# Altium integrated library TI Data Converters Analog to Digital Converter.IntLib: 2197 symbols (part 59 of 168)
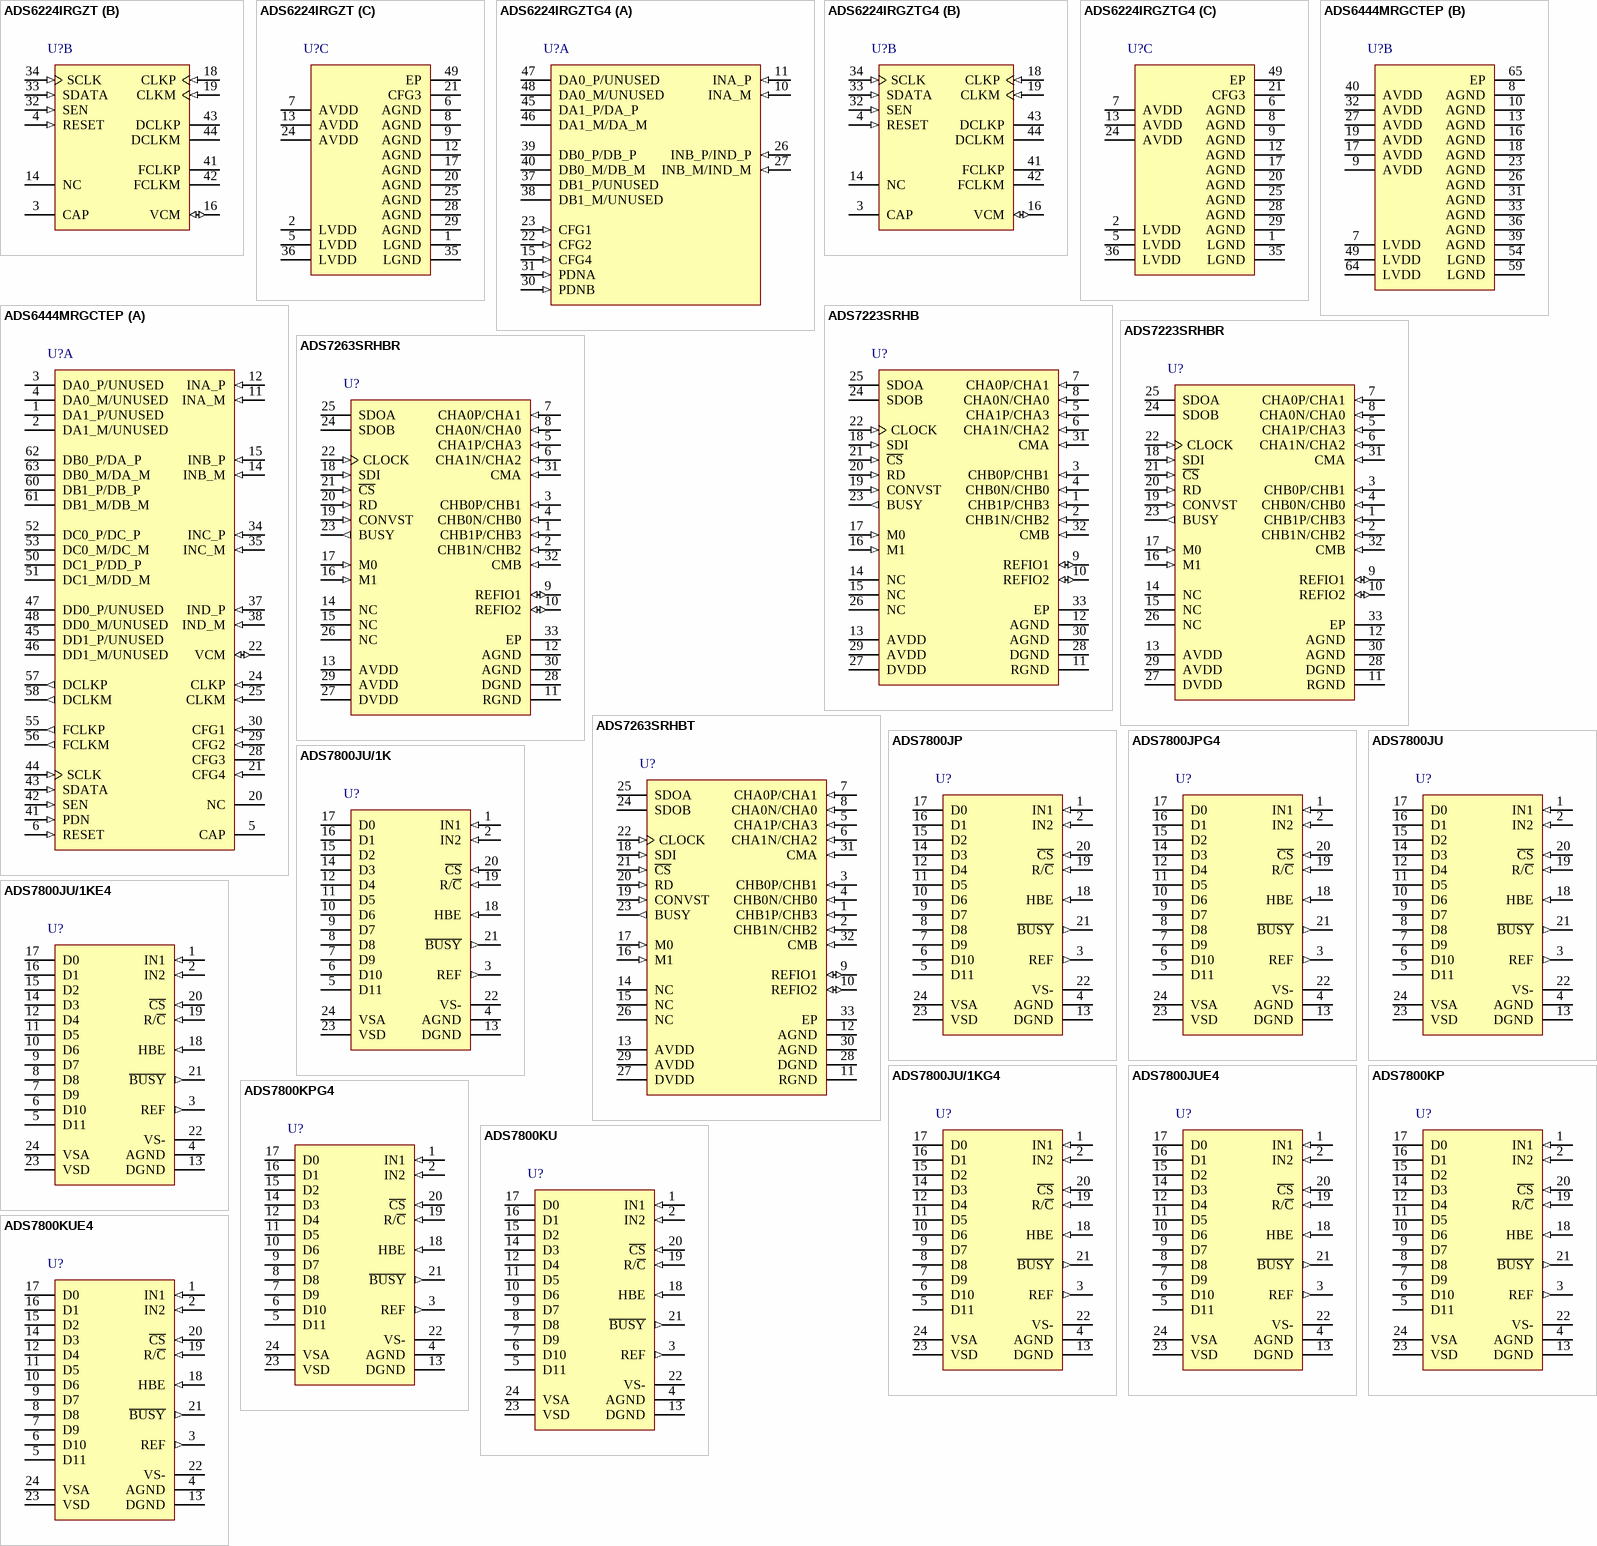
[diagram p184: symbols ADS6224IRGZT to ADS7800KUE4]

## ADS7800JU/1KE4
designator U?
12-Bit 3 us Sampling ADC, -40 to 85 degC, 24-pin SOIC (DW24), Green (RoHS & no Sb/Br); Manufacturer: Texas Instruments; PartNumber: ADS7800JU/1KE4; # Input Channels: 1; Analog Voltage AV/DD(Max)(V): 5.25; Analog Voltage AV/DD(Min)(V): 4.75; Architecture: SAR; Interface: Parallel CMOS; Resolution(Bits): 12; Sample Rate (max)(SPS): 333k; SFDR(dB): 77; SINAD(dB): 70; SNR(dB): 71; SubFamily: Precision ADC (<=10MSPS); DatasheetVersion: SBAS001A; PackageVersion: 4040000-5/G, 01/2011; PackageReference: DW24; PackageDescription: 24-Pin Plastic Small Outline, Body 15.4 x 7.5 mm, Pitch 1.27 mm; Supplier 1: Digi-Key; Supplier Part Number 1: ADS1216Y/250TR-ND; Supplier 2: Digi-Key; Supplier Part Number 2: ADS1216Y/250CT-ND; Supplier 3: Digi-Key; Supplier Part Number 3: ADS1216Y/250DKR-ND; Supplier 4: Farnell; Supplier Part Number 4: 1648595; Supplier 5: Newark; Supplier Part Number 5: 74C6984; Supplier 6: Mouser; Supplier Part Number 6: 595-ADS1216Y/250; Digital Supply(Max)(V): 5.25; Digital Supply(Min)(V): 4.75; Eco-Plan: Green (RoHS & no Sb/Br); INL(Max)(+/-LSB): 1; Mounting Technology: Surface Mount; Code_JEDEC: MS-013; ComponentLink1Description: Manufacturer URL; ComponentLink1URL: http://www.ti.com/; ComponentLink2Description: Datasheet; ComponentLink2URL: http://www.ti.com/general/docs/lit/getliterature.tsp?genericPartNumber=ADS7800&fileType=pdf; ComponentLink3Description: Package Specification; ComponentLink3URL: http://www.ti.com/litv/pdf/mpds174a
footprint TI-DW24_N (SOIC, 24-Leads, Body 15.4x7.5mm, Pitch 1.27mm, IPC Medium Density)
footprint TI-DW24_L (SOIC, 24-Leads, Body 15.4x7.5mm, Pitch 1.27mm, IPC High Density)
footprint TI-DW24_M (SOIC, 24-Leads, Body 15.4x7.5mm, Pitch 1.27mm, IPC Low Density)
pins: 1 IN1 (in) "+/-10V Analog Input. Connected to GND for +/-5V range.", 2 IN2 (in) "+/-5V Analog Input. Connected to GND for +/-10V range.", 3 REF (out) "+2V Reference Output. Bypass to GND with 22uF to 47uF Tantalum. Buffer for external loads.", 4 AGND (power) "Analog Ground. Connect to pin 13.", 5 D11 (hiz) "Data Bit 11. Most Significant Bit (MSB).", 6 D10 (hiz) "Data Bit 10.", 7 D9 (hiz) "Data Bit 9.", 8 D8 (hiz) "Data Bit 8.", 9 D7 (hiz) "Data Bit 7 if HBE is LOW; LOW if HBE is HIGH.", 10 D6 (hiz) "Data Bit 6 if HBE is LOW; LOW if HBE is HIGH.", 11 D5 (hiz) "Data Bit 5 if HBE is LOW; LOW if HBE is HIGH.", 12 D4 (hiz) "Data Bit 4 if HBE is LOW; LOW if HBE is HIGH.", 13 DGND (power) "Digital Ground. Connect to pin 4.", 14 D3 (hiz) "Data Bit 3 if HBE is LOW; Data Bit 11 if HBE is HIGH.", 15 D2 (hiz) "Data Bit 2 if HBE is LOW; Data Bit 10 if HBE is HIGH.", 16 D1 (hiz) "Data Bit 1 if HBE is LOW; Data Bit 9 if HBE is HIGH.", 17 D0 (hiz) "Data Bit 0 if HBE is LOW. Least Significant Bit (LSB); Data Bit 8 if HBE is HIGH.", 18 HBE (in) "High Byte Enable. When held LOW, data output as 12 bits in parallel. When held HIGH, four MSBs presented on pins 14-17, pins 9-12 output LOWs. Must be LOW to initiate conversion.", 19 R/~{C} (in) "Read/Convert. Falling edge initiates conversion when C\S\ is LOW, HBE is LOW, and B\U\S\Y\ is HIGH.", 20 ~{CS} (in) "Chip Select. Outputs in Hi-Z state when HIGH. Must be LOW to initiate conversion or read data.", 21 ~{BUSY} (out) "Busy. Output LOW during conversion. Data valid on rising edge in Convert Mode.", 22 VS- (power) "Negative Power Supply. -12V or -15V. Bypass to GND.", 23 VSD (power) "Positive Digital Power Supply. +5V. Connect to pin 24, and bypass to GND.", 24 VSA (power) "Positive Analog Power Supply. +5V. Connect to pin 23, and bypass to GND."

## ADS7800JU/1KG4
designator U?
12-Bit 3 us Sampling ADC, -40 to 85 degC, 24-pin SOIC (DW24), Green (RoHS & no Sb/Br); Manufacturer: Texas Instruments; PartNumber: ADS7800JU/1KG4; # Input Channels: 1; Analog Voltage AV/DD(Max)(V): 5.25; Analog Voltage AV/DD(Min)(V): 4.75; Architecture: SAR; Interface: Parallel CMOS; Resolution(Bits): 12; Sample Rate (max)(SPS): 333k; SFDR(dB): 77; SINAD(dB): 70; SNR(dB): 71; SubFamily: Precision ADC (<=10MSPS); DatasheetVersion: SBAS001A; PackageVersion: 4040000-5/G, 01/2011; PackageReference: DW24; PackageDescription: 24-Pin Plastic Small Outline, Body 15.4 x 7.5 mm, Pitch 1.27 mm; Supplier 1: Digi-Key; Supplier Part Number 1: ADS1216Y/250G4-ND; Supplier 2: Mouser; Supplier Part Number 2: 595-ADS1216Y/250G4; Digital Supply(Max)(V): 5.25; Digital Supply(Min)(V): 4.75; Eco-Plan: Green (RoHS & no Sb/Br); INL(Max)(+/-LSB): 1; Mounting Technology: Surface Mount; Code_JEDEC: MS-013; ComponentLink1Description: Manufacturer URL; ComponentLink1URL: http://www.ti.com/; ComponentLink2Description: Datasheet; ComponentLink2URL: http://www.ti.com/general/docs/lit/getliterature.tsp?genericPartNumber=ADS7800&fileType=pdf; ComponentLink3Description: Package Specification; ComponentLink3URL: http://www.ti.com/litv/pdf/mpds174a
footprint TI-DW24_N (SOIC, 24-Leads, Body 15.4x7.5mm, Pitch 1.27mm, IPC Medium Density)
footprint TI-DW24_L (SOIC, 24-Leads, Body 15.4x7.5mm, Pitch 1.27mm, IPC High Density)
footprint TI-DW24_M (SOIC, 24-Leads, Body 15.4x7.5mm, Pitch 1.27mm, IPC Low Density)
pins: 1 IN1 (in) "+/-10V Analog Input. Connected to GND for +/-5V range.", 2 IN2 (in) "+/-5V Analog Input. Connected to GND for +/-10V range.", 3 REF (out) "+2V Reference Output. Bypass to GND with 22uF to 47uF Tantalum. Buffer for external loads.", 4 AGND (power) "Analog Ground. Connect to pin 13.", 5 D11 (hiz) "Data Bit 11. Most Significant Bit (MSB).", 6 D10 (hiz) "Data Bit 10.", 7 D9 (hiz) "Data Bit 9.", 8 D8 (hiz) "Data Bit 8.", 9 D7 (hiz) "Data Bit 7 if HBE is LOW; LOW if HBE is HIGH.", 10 D6 (hiz) "Data Bit 6 if HBE is LOW; LOW if HBE is HIGH.", 11 D5 (hiz) "Data Bit 5 if HBE is LOW; LOW if HBE is HIGH.", 12 D4 (hiz) "Data Bit 4 if HBE is LOW; LOW if HBE is HIGH.", 13 DGND (power) "Digital Ground. Connect to pin 4.", 14 D3 (hiz) "Data Bit 3 if HBE is LOW; Data Bit 11 if HBE is HIGH.", 15 D2 (hiz) "Data Bit 2 if HBE is LOW; Data Bit 10 if HBE is HIGH.", 16 D1 (hiz) "Data Bit 1 if HBE is LOW; Data Bit 9 if HBE is HIGH.", 17 D0 (hiz) "Data Bit 0 if HBE is LOW. Least Significant Bit (LSB); Data Bit 8 if HBE is HIGH.", 18 HBE (in) "High Byte Enable. When held LOW, data output as 12 bits in parallel. When held HIGH, four MSBs presented on pins 14-17, pins 9-12 output LOWs. Must be LOW to initiate conversion.", 19 R/~{C} (in) "Read/Convert. Falling edge initiates conversion when C\S\ is LOW, HBE is LOW, and B\U\S\Y\ is HIGH.", 20 ~{CS} (in) "Chip Select. Outputs in Hi-Z state when HIGH. Must be LOW to initiate conversion or read data.", 21 ~{BUSY} (out) "Busy. Output LOW during conversion. Data valid on rising edge in Convert Mode.", 22 VS- (power) "Negative Power Supply. -12V or -15V. Bypass to GND.", 23 VSD (power) "Positive Digital Power Supply. +5V. Connect to pin 24, and bypass to GND.", 24 VSA (power) "Positive Analog Power Supply. +5V. Connect to pin 23, and bypass to GND."

## ADS7800JUE4
designator U?
12-Bit 3 us Sampling ADC, -40 to 85 degC, 24-pin SOIC (DW24), Green (RoHS & no Sb/Br); Manufacturer: Texas Instruments; PartNumber: ADS7800JUE4; # Input Channels: 1; Analog Voltage AV/DD(Max)(V): 5.25; Analog Voltage AV/DD(Min)(V): 4.75; Architecture: SAR; Interface: Parallel CMOS; Resolution(Bits): 12; Sample Rate (max)(SPS): 333k; SFDR(dB): 77; SINAD(dB): 70; SNR(dB): 71; SubFamily: Precision ADC (<=10MSPS); DatasheetVersion: SBAS001A; PackageVersion: 4040000-5/G, 01/2011; PackageReference: DW24; PackageDescription: 24-Pin Plastic Small Outline, Body 15.4 x 7.5 mm, Pitch 1.27 mm; Supplier 1: Digi-Key; Supplier Part Number 1: ADS1216Y/2K-ND; Supplier 2: Newark; Supplier Part Number 2: 74C6983; Supplier 3: Mouser; Supplier Part Number 3: 595-ADS1216Y/2K; Digital Supply(Max)(V): 5.25; Digital Supply(Min)(V): 4.75; Eco-Plan: Green (RoHS & no Sb/Br); INL(Max)(+/-LSB): 1; Mounting Technology: Surface Mount; Code_JEDEC: MS-013; ComponentLink1Description: Manufacturer URL; ComponentLink1URL: http://www.ti.com/; ComponentLink2Description: Datasheet; ComponentLink2URL: http://www.ti.com/general/docs/lit/getliterature.tsp?genericPartNumber=ADS7800&fileType=pdf; ComponentLink3Description: Package Specification; ComponentLink3URL: http://www.ti.com/litv/pdf/mpds174a
footprint TI-DW24_N (SOIC, 24-Leads, Body 15.4x7.5mm, Pitch 1.27mm, IPC Medium Density)
footprint TI-DW24_L (SOIC, 24-Leads, Body 15.4x7.5mm, Pitch 1.27mm, IPC High Density)
footprint TI-DW24_M (SOIC, 24-Leads, Body 15.4x7.5mm, Pitch 1.27mm, IPC Low Density)
pins: 1 IN1 (in) "+/-10V Analog Input. Connected to GND for +/-5V range.", 2 IN2 (in) "+/-5V Analog Input. Connected to GND for +/-10V range.", 3 REF (out) "+2V Reference Output. Bypass to GND with 22uF to 47uF Tantalum. Buffer for external loads.", 4 AGND (power) "Analog Ground. Connect to pin 13.", 5 D11 (hiz) "Data Bit 11. Most Significant Bit (MSB).", 6 D10 (hiz) "Data Bit 10.", 7 D9 (hiz) "Data Bit 9.", 8 D8 (hiz) "Data Bit 8.", 9 D7 (hiz) "Data Bit 7 if HBE is LOW; LOW if HBE is HIGH.", 10 D6 (hiz) "Data Bit 6 if HBE is LOW; LOW if HBE is HIGH.", 11 D5 (hiz) "Data Bit 5 if HBE is LOW; LOW if HBE is HIGH.", 12 D4 (hiz) "Data Bit 4 if HBE is LOW; LOW if HBE is HIGH.", 13 DGND (power) "Digital Ground. Connect to pin 4.", 14 D3 (hiz) "Data Bit 3 if HBE is LOW; Data Bit 11 if HBE is HIGH.", 15 D2 (hiz) "Data Bit 2 if HBE is LOW; Data Bit 10 if HBE is HIGH.", 16 D1 (hiz) "Data Bit 1 if HBE is LOW; Data Bit 9 if HBE is HIGH.", 17 D0 (hiz) "Data Bit 0 if HBE is LOW. Least Significant Bit (LSB); Data Bit 8 if HBE is HIGH.", 18 HBE (in) "High Byte Enable. When held LOW, data output as 12 bits in parallel. When held HIGH, four MSBs presented on pins 14-17, pins 9-12 output LOWs. Must be LOW to initiate conversion.", 19 R/~{C} (in) "Read/Convert. Falling edge initiates conversion when C\S\ is LOW, HBE is LOW, and B\U\S\Y\ is HIGH.", 20 ~{CS} (in) "Chip Select. Outputs in Hi-Z state when HIGH. Must be LOW to initiate conversion or read data.", 21 ~{BUSY} (out) "Busy. Output LOW during conversion. Data valid on rising edge in Convert Mode.", 22 VS- (power) "Negative Power Supply. -12V or -15V. Bypass to GND.", 23 VSD (power) "Positive Digital Power Supply. +5V. Connect to pin 24, and bypass to GND.", 24 VSA (power) "Positive Analog Power Supply. +5V. Connect to pin 23, and bypass to GND."

## ADS7800KP
designator U?
12-Bit 3 us Sampling ADC, -40 to 85 degC, 24-pin DIP (NT24), Green (RoHS & no Sb/Br); Manufacturer: Texas Instruments; PartNumber: ADS7800KP; # Input Channels: 1; Analog Voltage AV/DD(Max)(V): 5.25; Analog Voltage AV/DD(Min)(V): 4.75; Architecture: SAR; INL(Max)(+/-LSB): 0.5; Interface: Parallel CMOS; Resolution(Bits): 12; Sample Rate (max)(SPS): 333k; SFDR(dB): 80; SINAD(dB): 72; SNR(dB): 73; SubFamily: Precision ADC (<=10MSPS); DatasheetVersion: SBAS001A; PackageVersion: 4040050/C, 04/2009; PackageReference: NT24; PackageDescription: 24-Pin Plastic Dual-In-Line Package, Body 31.64 x 6.73 mm, Pitch 2.54 mm; Supplier 1: Digi-Key; Supplier Part Number 1: ADS1216Y/2KG4-ND; Supplier 2: Mouser; Supplier Part Number 2: 595-ADS1216Y/2KG4; Digital Supply(Max)(V): 5.25; Digital Supply(Min)(V): 4.75; Eco-Plan: Green (RoHS & no Sb/Br); Mounting Technology: Through Hole; ComponentLink1Description: Manufacturer URL; ComponentLink1URL: http://www.ti.com/; ComponentLink2Description: Datasheet; ComponentLink2URL: http://www.ti.com/general/docs/lit/getliterature.tsp?genericPartNumber=ADS7800&fileType=pdf; ComponentLink3Description: Package Specification; ComponentLink3URL: http://www.ti.com/litv/pdf/mpdi004a
footprint TI-NT24 (DIP, 24-Leads, Body 31.64x6.73mm, Pitch 2.54mm)
pins: 1 IN1 (in) "+/-10V Analog Input. Connected to GND for +/-5V range.", 2 IN2 (in) "+/-5V Analog Input. Connected to GND for +/-10V range.", 3 REF (out) "+2V Reference Output. Bypass to GND with 22uF to 47uF Tantalum. Buffer for external loads.", 4 AGND (power) "Analog Ground. Connect to pin 13.", 5 D11 (hiz) "Data Bit 11. Most Significant Bit (MSB).", 6 D10 (hiz) "Data Bit 10.", 7 D9 (hiz) "Data Bit 9.", 8 D8 (hiz) "Data Bit 8.", 9 D7 (hiz) "Data Bit 7 if HBE is LOW; LOW if HBE is HIGH.", 10 D6 (hiz) "Data Bit 6 if HBE is LOW; LOW if HBE is HIGH.", 11 D5 (hiz) "Data Bit 5 if HBE is LOW; LOW if HBE is HIGH.", 12 D4 (hiz) "Data Bit 4 if HBE is LOW; LOW if HBE is HIGH.", 13 DGND (power) "Digital Ground. Connect to pin 4.", 14 D3 (hiz) "Data Bit 3 if HBE is LOW; Data Bit 11 if HBE is HIGH.", 15 D2 (hiz) "Data Bit 2 if HBE is LOW; Data Bit 10 if HBE is HIGH.", 16 D1 (hiz) "Data Bit 1 if HBE is LOW; Data Bit 9 if HBE is HIGH.", 17 D0 (hiz) "Data Bit 0 if HBE is LOW. Least Significant Bit (LSB); Data Bit 8 if HBE is HIGH.", 18 HBE (in) "High Byte Enable. When held LOW, data output as 12 bits in parallel. When held HIGH, four MSBs presented on pins 14-17, pins 9-12 output LOWs. Must be LOW to initiate conversion.", 19 R/~{C} (in) "Read/Convert. Falling edge initiates conversion when C\S\ is LOW, HBE is LOW, and B\U\S\Y\ is HIGH.", 20 ~{CS} (in) "Chip Select. Outputs in Hi-Z state when HIGH. Must be LOW to initiate conversion or read data.", 21 ~{BUSY} (out) "Busy. Output LOW during conversion. Data valid on rising edge in Convert Mode.", 22 VS- (power) "Negative Power Supply. -12V or -15V. Bypass to GND.", 23 VSD (power) "Positive Digital Power Supply. +5V. Connect to pin 24, and bypass to GND.", 24 VSA (power) "Positive Analog Power Supply. +5V. Connect to pin 23, and bypass to GND."

## ADS7800KPG4
designator U?
12-Bit 3 us Sampling ADC, -40 to 85 degC, 24-pin DIP (NT24), Green (RoHS & no Sb/Br); Manufacturer: Texas Instruments; PartNumber: ADS7800KPG4; # Input Channels: 1; Analog Voltage AV/DD(Max)(V): 5.25; Analog Voltage AV/DD(Min)(V): 4.75; Architecture: SAR; INL(Max)(+/-LSB): 0.5; Interface: Parallel CMOS; Resolution(Bits): 12; Sample Rate (max)(SPS): 333k; SFDR(dB): 80; SINAD(dB): 72; SNR(dB): 73; SubFamily: Precision ADC (<=10MSPS); DatasheetVersion: SBAS001A; PackageVersion: 4040050/C, 04/2009; PackageReference: NT24; PackageDescription: 24-Pin Plastic Dual-In-Line Package, Body 31.64 x 6.73 mm, Pitch 2.54 mm; Supplier 1: Digi-Key; Supplier Part Number 1: ADS850YTR-ND; Supplier 2: Digi-Key; Supplier Part Number 2: ADS850YCT-ND; Supplier 3: Digi-Key; Supplier Part Number 3: ADS850YDKR-ND; Supplier 4: Farnell; Supplier Part Number 4: 1544008; Supplier 5: Newark; Supplier Part Number 5: 94M6145; Supplier 6: Newark; Supplier Part Number 6: 74C7263; Supplier 7: Mouser; Supplier Part Number 7: 595-ADS850Y/250; Digital Supply(Max)(V): 5.25; Digital Supply(Min)(V): 4.75; Eco-Plan: Green (RoHS & no Sb/Br); Mounting Technology: Through Hole; ComponentLink1Description: Manufacturer URL; ComponentLink1URL: http://www.ti.com/; ComponentLink2Description: Datasheet; ComponentLink2URL: http://www.ti.com/general/docs/lit/getliterature.tsp?genericPartNumber=ADS7800&fileType=pdf; ComponentLink3Description: Package Specification; ComponentLink3URL: http://www.ti.com/litv/pdf/mpdi004a
footprint TI-NT24 (DIP, 24-Leads, Body 31.64x6.73mm, Pitch 2.54mm)
pins: 1 IN1 (in) "+/-10V Analog Input. Connected to GND for +/-5V range.", 2 IN2 (in) "+/-5V Analog Input. Connected to GND for +/-10V range.", 3 REF (out) "+2V Reference Output. Bypass to GND with 22uF to 47uF Tantalum. Buffer for external loads.", 4 AGND (power) "Analog Ground. Connect to pin 13.", 5 D11 (hiz) "Data Bit 11. Most Significant Bit (MSB).", 6 D10 (hiz) "Data Bit 10.", 7 D9 (hiz) "Data Bit 9.", 8 D8 (hiz) "Data Bit 8.", 9 D7 (hiz) "Data Bit 7 if HBE is LOW; LOW if HBE is HIGH.", 10 D6 (hiz) "Data Bit 6 if HBE is LOW; LOW if HBE is HIGH.", 11 D5 (hiz) "Data Bit 5 if HBE is LOW; LOW if HBE is HIGH.", 12 D4 (hiz) "Data Bit 4 if HBE is LOW; LOW if HBE is HIGH.", 13 DGND (power) "Digital Ground. Connect to pin 4.", 14 D3 (hiz) "Data Bit 3 if HBE is LOW; Data Bit 11 if HBE is HIGH.", 15 D2 (hiz) "Data Bit 2 if HBE is LOW; Data Bit 10 if HBE is HIGH.", 16 D1 (hiz) "Data Bit 1 if HBE is LOW; Data Bit 9 if HBE is HIGH.", 17 D0 (hiz) "Data Bit 0 if HBE is LOW. Least Significant Bit (LSB); Data Bit 8 if HBE is HIGH.", 18 HBE (in) "High Byte Enable. When held LOW, data output as 12 bits in parallel. When held HIGH, four MSBs presented on pins 14-17, pins 9-12 output LOWs. Must be LOW to initiate conversion.", 19 R/~{C} (in) "Read/Convert. Falling edge initiates conversion when C\S\ is LOW, HBE is LOW, and B\U\S\Y\ is HIGH.", 20 ~{CS} (in) "Chip Select. Outputs in Hi-Z state when HIGH. Must be LOW to initiate conversion or read data.", 21 ~{BUSY} (out) "Busy. Output LOW during conversion. Data valid on rising edge in Convert Mode.", 22 VS- (power) "Negative Power Supply. -12V or -15V. Bypass to GND.", 23 VSD (power) "Positive Digital Power Supply. +5V. Connect to pin 24, and bypass to GND.", 24 VSA (power) "Positive Analog Power Supply. +5V. Connect to pin 23, and bypass to GND."

## ADS7800KU
designator U?
12-Bit 3 us Sampling ADC, -40 to 85 degC, 24-pin SOIC (DW24), Green (RoHS & no Sb/Br); Manufacturer: Texas Instruments; PartNumber: ADS7800KU; # Input Channels: 1; Analog Voltage AV/DD(Max)(V): 5.25; Analog Voltage AV/DD(Min)(V): 4.75; Architecture: SAR; INL(Max)(+/-LSB): 0.5; Interface: Parallel CMOS; Resolution(Bits): 12; Sample Rate (max)(SPS): 333k; SFDR(dB): 80; SINAD(dB): 72; SNR(dB): 73; SubFamily: Precision ADC (<=10MSPS); DatasheetVersion: SBAS001A; PackageVersion: 4040000-5/G, 01/2011; PackageReference: DW24; PackageDescription: 24-Pin Plastic Small Outline, Body 15.4 x 7.5 mm, Pitch 1.27 mm; Supplier 1: Digi-Key; Supplier Part Number 1: ADS850Y/250G4-ND; Supplier 2: Newark; Supplier Part Number 2: 20M4997; Supplier 3: Mouser; Supplier Part Number 3: 595-ADS850Y/250G4; Digital Supply(Max)(V): 5.25; Digital Supply(Min)(V): 4.75; Eco-Plan: Green (RoHS & no Sb/Br); Mounting Technology: Surface Mount; Code_JEDEC: MS-013; ComponentLink1Description: Manufacturer URL; ComponentLink1URL: http://www.ti.com/; ComponentLink2Description: Datasheet; ComponentLink2URL: http://www.ti.com/general/docs/lit/getliterature.tsp?genericPartNumber=ADS7800&fileType=pdf; ComponentLink3Description: Package Specification; ComponentLink3URL: http://www.ti.com/litv/pdf/mpds174a
footprint TI-DW24_N (SOIC, 24-Leads, Body 15.4x7.5mm, Pitch 1.27mm, IPC Medium Density)
footprint TI-DW24_L (SOIC, 24-Leads, Body 15.4x7.5mm, Pitch 1.27mm, IPC High Density)
footprint TI-DW24_M (SOIC, 24-Leads, Body 15.4x7.5mm, Pitch 1.27mm, IPC Low Density)
pins: 1 IN1 (in) "+/-10V Analog Input. Connected to GND for +/-5V range.", 2 IN2 (in) "+/-5V Analog Input. Connected to GND for +/-10V range.", 3 REF (out) "+2V Reference Output. Bypass to GND with 22uF to 47uF Tantalum. Buffer for external loads.", 4 AGND (power) "Analog Ground. Connect to pin 13.", 5 D11 (hiz) "Data Bit 11. Most Significant Bit (MSB).", 6 D10 (hiz) "Data Bit 10.", 7 D9 (hiz) "Data Bit 9.", 8 D8 (hiz) "Data Bit 8.", 9 D7 (hiz) "Data Bit 7 if HBE is LOW; LOW if HBE is HIGH.", 10 D6 (hiz) "Data Bit 6 if HBE is LOW; LOW if HBE is HIGH.", 11 D5 (hiz) "Data Bit 5 if HBE is LOW; LOW if HBE is HIGH.", 12 D4 (hiz) "Data Bit 4 if HBE is LOW; LOW if HBE is HIGH.", 13 DGND (power) "Digital Ground. Connect to pin 4.", 14 D3 (hiz) "Data Bit 3 if HBE is LOW; Data Bit 11 if HBE is HIGH.", 15 D2 (hiz) "Data Bit 2 if HBE is LOW; Data Bit 10 if HBE is HIGH.", 16 D1 (hiz) "Data Bit 1 if HBE is LOW; Data Bit 9 if HBE is HIGH.", 17 D0 (hiz) "Data Bit 0 if HBE is LOW. Least Significant Bit (LSB); Data Bit 8 if HBE is HIGH.", 18 HBE (in) "High Byte Enable. When held LOW, data output as 12 bits in parallel. When held HIGH, four MSBs presented on pins 14-17, pins 9-12 output LOWs. Must be LOW to initiate conversion.", 19 R/~{C} (in) "Read/Convert. Falling edge initiates conversion when C\S\ is LOW, HBE is LOW, and B\U\S\Y\ is HIGH.", 20 ~{CS} (in) "Chip Select. Outputs in Hi-Z state when HIGH. Must be LOW to initiate conversion or read data.", 21 ~{BUSY} (out) "Busy. Output LOW during conversion. Data valid on rising edge in Convert Mode.", 22 VS- (power) "Negative Power Supply. -12V or -15V. Bypass to GND.", 23 VSD (power) "Positive Digital Power Supply. +5V. Connect to pin 24, and bypass to GND.", 24 VSA (power) "Positive Analog Power Supply. +5V. Connect to pin 23, and bypass to GND."

## ADS7800KUE4
designator U?
12-Bit 3 us Sampling ADC, -40 to 85 degC, 24-pin SOIC (DW24), Green (RoHS & no Sb/Br); Manufacturer: Texas Instruments; PartNumber: ADS7800KUE4; # Input Channels: 1; Analog Voltage AV/DD(Max)(V): 5.25; Analog Voltage AV/DD(Min)(V): 4.75; Architecture: SAR; INL(Max)(+/-LSB): 0.5; Interface: Parallel CMOS; Resolution(Bits): 12; Sample Rate (max)(SPS): 333k; SFDR(dB): 80; SINAD(dB): 72; SNR(dB): 73; SubFamily: Precision ADC (<=10MSPS); DatasheetVersion: SBAS001A; PackageVersion: 4040000-5/G, 01/2011; PackageReference: DW24; PackageDescription: 24-Pin Plastic Small Outline, Body 15.4 x 7.5 mm, Pitch 1.27 mm; Supplier 1: Digi-Key; Supplier Part Number 1: ADS850Y/2K-ND; Supplier 2: Newark; Supplier Part Number 2: 74C7262; Supplier 3: Mouser; Supplier Part Number 3: 595-ADS850Y/2K; Digital Supply(Max)(V): 5.25; Digital Supply(Min)(V): 4.75; Eco-Plan: Green (RoHS & no Sb/Br); Mounting Technology: Surface Mount; Code_JEDEC: MS-013; ComponentLink1Description: Manufacturer URL; ComponentLink1URL: http://www.ti.com/; ComponentLink2Description: Datasheet; ComponentLink2URL: http://www.ti.com/general/docs/lit/getliterature.tsp?genericPartNumber=ADS7800&fileType=pdf; ComponentLink3Description: Package Specification; ComponentLink3URL: http://www.ti.com/litv/pdf/mpds174a
footprint TI-DW24_N (SOIC, 24-Leads, Body 15.4x7.5mm, Pitch 1.27mm, IPC Medium Density)
footprint TI-DW24_L (SOIC, 24-Leads, Body 15.4x7.5mm, Pitch 1.27mm, IPC High Density)
footprint TI-DW24_M (SOIC, 24-Leads, Body 15.4x7.5mm, Pitch 1.27mm, IPC Low Density)
pins: 1 IN1 (in) "+/-10V Analog Input. Connected to GND for +/-5V range.", 2 IN2 (in) "+/-5V Analog Input. Connected to GND for +/-10V range.", 3 REF (out) "+2V Reference Output. Bypass to GND with 22uF to 47uF Tantalum. Buffer for external loads.", 4 AGND (power) "Analog Ground. Connect to pin 13.", 5 D11 (hiz) "Data Bit 11. Most Significant Bit (MSB).", 6 D10 (hiz) "Data Bit 10.", 7 D9 (hiz) "Data Bit 9.", 8 D8 (hiz) "Data Bit 8.", 9 D7 (hiz) "Data Bit 7 if HBE is LOW; LOW if HBE is HIGH.", 10 D6 (hiz) "Data Bit 6 if HBE is LOW; LOW if HBE is HIGH.", 11 D5 (hiz) "Data Bit 5 if HBE is LOW; LOW if HBE is HIGH.", 12 D4 (hiz) "Data Bit 4 if HBE is LOW; LOW if HBE is HIGH.", 13 DGND (power) "Digital Ground. Connect to pin 4.", 14 D3 (hiz) "Data Bit 3 if HBE is LOW; Data Bit 11 if HBE is HIGH.", 15 D2 (hiz) "Data Bit 2 if HBE is LOW; Data Bit 10 if HBE is HIGH.", 16 D1 (hiz) "Data Bit 1 if HBE is LOW; Data Bit 9 if HBE is HIGH.", 17 D0 (hiz) "Data Bit 0 if HBE is LOW. Least Significant Bit (LSB); Data Bit 8 if HBE is HIGH.", 18 HBE (in) "High Byte Enable. When held LOW, data output as 12 bits in parallel. When held HIGH, four MSBs presented on pins 14-17, pins 9-12 output LOWs. Must be LOW to initiate conversion.", 19 R/~{C} (in) "Read/Convert. Falling edge initiates conversion when C\S\ is LOW, HBE is LOW, and B\U\S\Y\ is HIGH.", 20 ~{CS} (in) "Chip Select. Outputs in Hi-Z state when HIGH. Must be LOW to initiate conversion or read data.", 21 ~{BUSY} (out) "Busy. Output LOW during conversion. Data valid on rising edge in Convert Mode.", 22 VS- (power) "Negative Power Supply. -12V or -15V. Bypass to GND.", 23 VSD (power) "Positive Digital Power Supply. +5V. Connect to pin 24, and bypass to GND.", 24 VSA (power) "Positive Analog Power Supply. +5V. Connect to pin 23, and bypass to GND."

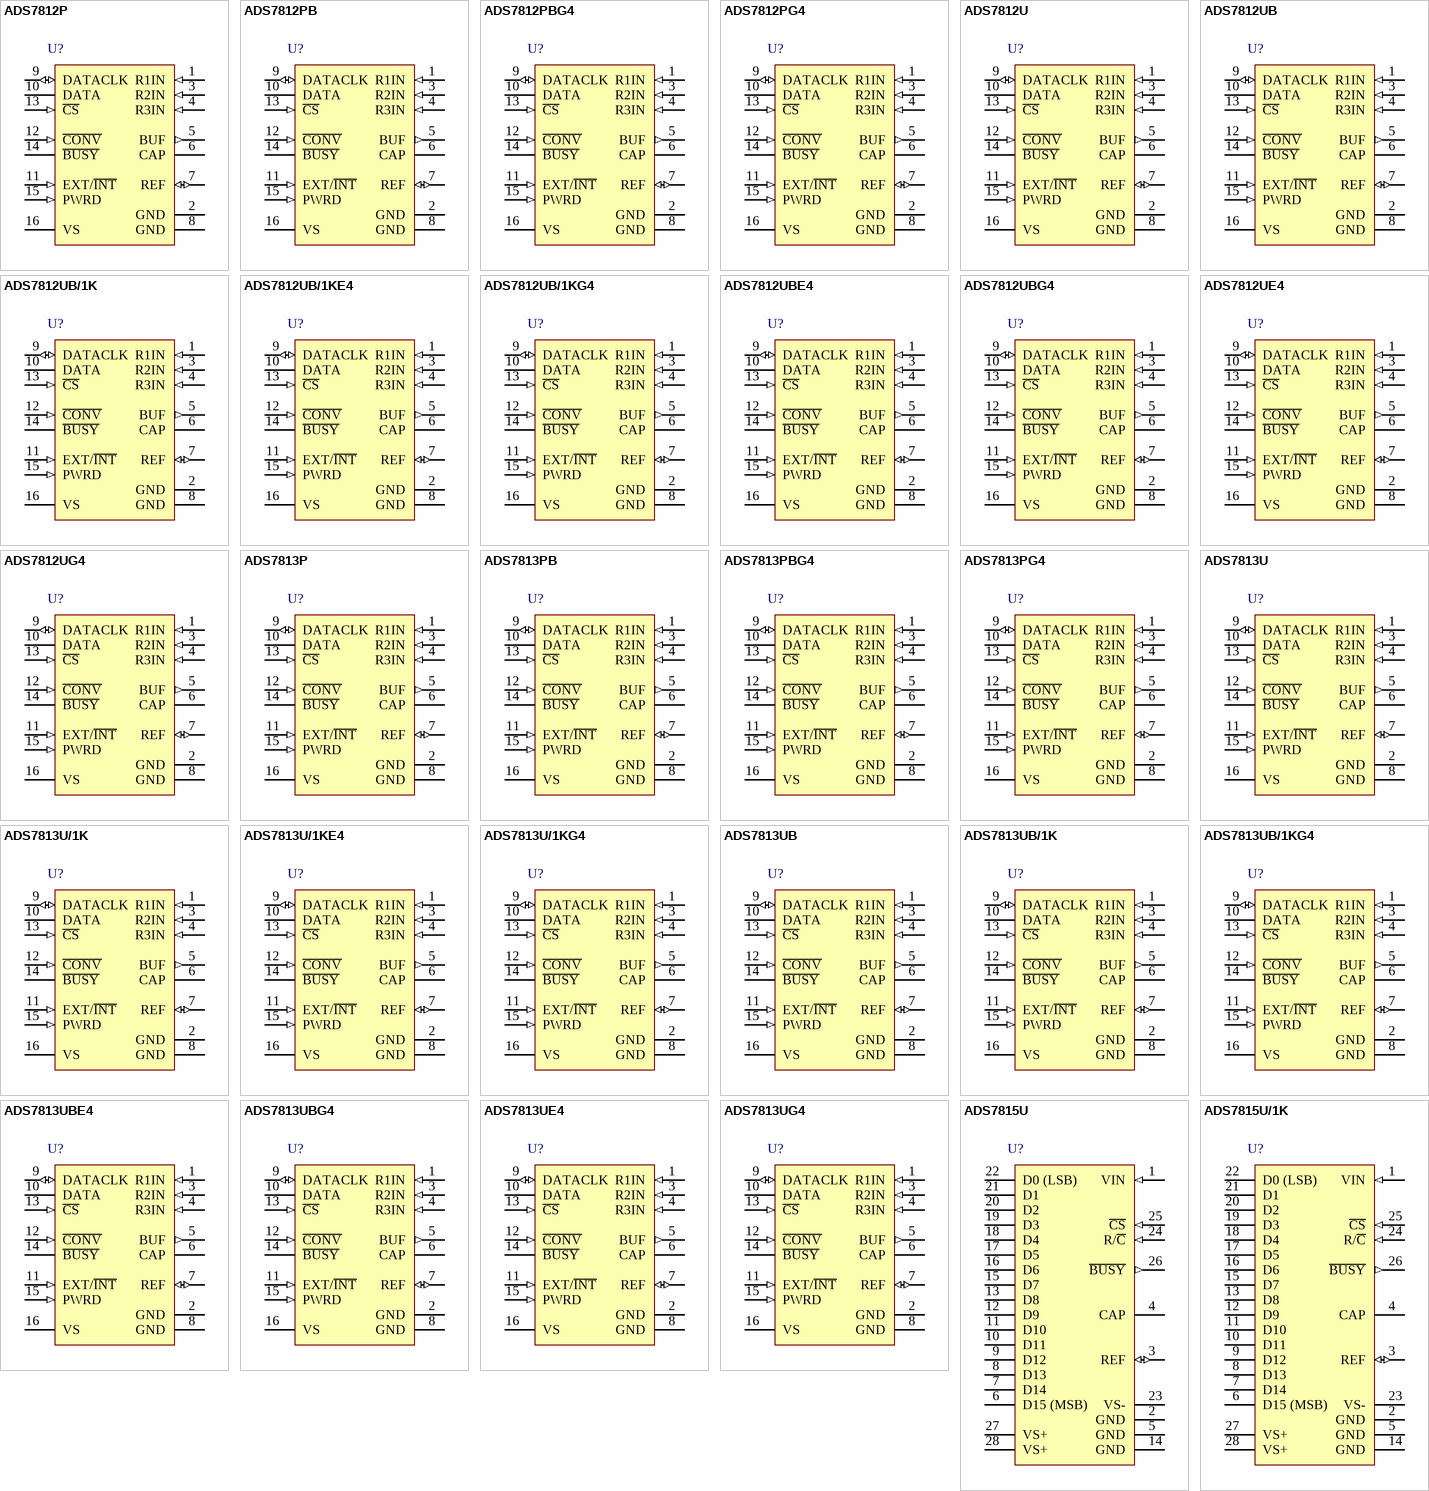
[diagram p58: symbols ADS7812P to ADS7815U/1K]

## ADS7812P
designator U?
Low-Power, Serial 12-Bit Sampling ADC, -40 to 85 degC, 16-pin DIP (N16), Green (RoHS & no Sb/Br); Manufacturer: Texas Instruments; PartNumber: ADS7812P; # Input Channels: 1; Analog Voltage AV/DD(Max)(V): 5.25; Analog Voltage AV/DD(Min)(V): 4.75; Architecture: SAR; Interface: Serial SPI; Resolution(Bits): 12; Sample Rate (max)(SPS): 40k; SFDR(dB): 98; SINAD(dB): 74; SubFamily: Precision ADC (<=10MSPS); DatasheetVersion: SBAS042A; PackageVersion: 4040049/E, 12/2002; PackageReference: N16; PackageDescription: 16-Pin Plastic In-Line, Body 19.305 x 6.35 mm, Pitch 2.54 mm; Supplier 1: Digi-Key; Supplier Part Number 1: ADS7864YTR-ND; Supplier 2: Digi-Key; Supplier Part Number 2: ADS7864YCT-ND; Supplier 3: Digi-Key; Supplier Part Number 3: ADS7864YDKR-ND; Supplier 4: Mouser; Supplier Part Number 4: 595-ADS7864Y/250; Digital Supply(Max)(V): 5.25; Digital Supply(Min)(V): 4.75; Eco-Plan: Green (RoHS & no Sb/Br); INL(Max)(+/-LSB): 1; SNR(dB): 74; Mounting Technology: Through Hole; Code_JEDEC: MS-001; ComponentLink1Description: Manufacturer URL; ComponentLink1URL: http://www.ti.com/; ComponentLink2Description: Datasheet; ComponentLink2URL: http://www.ti.com/general/docs/lit/getliterature.tsp?genericPartNumber=ADS7812&fileType=pdf; ComponentLink3Description: Package Specification; ComponentLink3URL: http://www.ti.com/litv/pdf/mpdi002c
footprint TI-N16 (DIP, 16-Leads, Body 19.305x6.35mm, Pitch 2.54mm)
pins: 1 R1IN (in) "Analog input", 2 GND (power) "Ground.", 3 R2IN (in) "Analog input", 4 R3IN (in) "Analog input", 5 BUF (out) "Reference buffer output. Connect to R1IN, R2IN, or R3IN as needed", 6 CAP "Reference buffer compensation node. Decouple to ground with a 1-uF tantalum capacitor in parallel with a 0.01uF ceramic capacitor.", 7 REF (io) "Reference input/output. Outputs internal 2.5V reference via a series 4kohm resistor. Decouple this voltage with a 1uF to 2.2uF tantalum capacitor to ground. If an external reference voltage is applied to this pin, it (See Datasheet)", 8 GND (power) "Ground.", 9 DATACLK (io) "Data clock pin. With EXT/I\N\T\ low, this pin is an output and provides the synchronous clock for the serial data. The output is 3-stated when C\S\ is high. With EXT/I\N\T\ high, this pin is an input and the serial data (See Datasheet)", 10 DATA (hiz) "Serial data output. The serial data are always the result of the last completed conversion and are synchronized to DATACLK. If DATACLK is from the internal clock (EXT/I\N\T\ low), the serial data are valid on both the rising (See Datasheet)", 11 EXT/~{INT} (in), 12 ~{CONV} (in) "Convert input. A falling edge on this input puts the internal sample/hold into the hold state and starts a conversion regardless of the state of C\S\. If a conversion is already in progress, the falling edge is ignored. If (See Datasheet)", 13 ~{CS} (in) "Chip select. This input 3-states all outputs when high and enables all outputs when low, including DATA, B\U\S\Y\, and DATACLK (when EXT/I\N\T\ is low). Note that a falling edge on C\O\N\V\ initiates a conversion even when (See Datasheet)", 14 ~{BUSY} (hiz) "Busy output. When a conversion starts, B\U\S\Y\ goes low and remains low throughout the conversion. If EXT/I\N\T\ is low, data are serially transmitted while B\U\S\Y\ is low. B\U\S\Y\ is 3-stated when C\S\ is high.", 15 PWRD (in) "Power-down input. When high, the majority of the ADS7812/ADS7813/ADS8513 circuitry is placed in a low-power mode and power consumption is significantly reduced.", 16 VS (power) "+5V supply input. For best performance, decouple to ground with a 0.1uF ceramic capacitor in parallel with a 10uF tantalum capacitor."

## ADS7812PB
designator U?
Low-Power, Serial 12-Bit Sampling ADC, -40 to 85 degC, 16-pin DIP (N16), Green (RoHS & no Sb/Br); Manufacturer: Texas Instruments; PartNumber: ADS7812PB; # Input Channels: 1; Analog Voltage AV/DD(Max)(V): 5.25; Analog Voltage AV/DD(Min)(V): 4.75; Architecture: SAR; INL(Max)(+/-LSB): 0.5; Interface: Serial SPI; Resolution(Bits): 12; Sample Rate (max)(SPS): 40k; SFDR(dB): 98; SINAD(dB): 74; SubFamily: Precision ADC (<=10MSPS); DatasheetVersion: SBAS042A; PackageVersion: 4040049/E, 12/2002; PackageReference: N16; PackageDescription: 16-Pin Plastic In-Line, Body 19.305 x 6.35 mm, Pitch 2.54 mm; Supplier 1: Digi-Key; Supplier Part Number 1: ADS7864Y/250G4-ND; Supplier 2: Farnell; Supplier Part Number 2: 1329575; Supplier 3: Newark; Supplier Part Number 3: 20M4987; Supplier 4: Mouser; Supplier Part Number 4: 595-ADS7864Y/250G4; Digital Supply(Max)(V): 5.25; Digital Supply(Min)(V): 4.75; Eco-Plan: Green (RoHS & no Sb/Br); SNR(dB): 74; Mounting Technology: Through Hole; Code_JEDEC: MS-001; ComponentLink1Description: Manufacturer URL; ComponentLink1URL: http://www.ti.com/; ComponentLink2Description: Datasheet; ComponentLink2URL: http://www.ti.com/general/docs/lit/getliterature.tsp?genericPartNumber=ADS7812&fileType=pdf; ComponentLink3Description: Package Specification; ComponentLink3URL: http://www.ti.com/litv/pdf/mpdi002c
footprint TI-N16 (DIP, 16-Leads, Body 19.305x6.35mm, Pitch 2.54mm)
pins: 1 R1IN (in) "Analog input", 2 GND (power) "Ground.", 3 R2IN (in) "Analog input", 4 R3IN (in) "Analog input", 5 BUF (out) "Reference buffer output. Connect to R1IN, R2IN, or R3IN as needed", 6 CAP "Reference buffer compensation node. Decouple to ground with a 1-uF tantalum capacitor in parallel with a 0.01uF ceramic capacitor.", 7 REF (io) "Reference input/output. Outputs internal 2.5V reference via a series 4kohm resistor. Decouple this voltage with a 1uF to 2.2uF tantalum capacitor to ground. If an external reference voltage is applied to this pin, it (See Datasheet)", 8 GND (power) "Ground.", 9 DATACLK (io) "Data clock pin. With EXT/I\N\T\ low, this pin is an output and provides the synchronous clock for the serial data. The output is 3-stated when C\S\ is high. With EXT/I\N\T\ high, this pin is an input and the serial data (See Datasheet)", 10 DATA (hiz) "Serial data output. The serial data are always the result of the last completed conversion and are synchronized to DATACLK. If DATACLK is from the internal clock (EXT/I\N\T\ low), the serial data are valid on both the rising (See Datasheet)", 11 EXT/~{INT} (in), 12 ~{CONV} (in) "Convert input. A falling edge on this input puts the internal sample/hold into the hold state and starts a conversion regardless of the state of C\S\. If a conversion is already in progress, the falling edge is ignored. If (See Datasheet)", 13 ~{CS} (in) "Chip select. This input 3-states all outputs when high and enables all outputs when low, including DATA, B\U\S\Y\, and DATACLK (when EXT/I\N\T\ is low). Note that a falling edge on C\O\N\V\ initiates a conversion even when (See Datasheet)", 14 ~{BUSY} (hiz) "Busy output. When a conversion starts, B\U\S\Y\ goes low and remains low throughout the conversion. If EXT/I\N\T\ is low, data are serially transmitted while B\U\S\Y\ is low. B\U\S\Y\ is 3-stated when C\S\ is high.", 15 PWRD (in) "Power-down input. When high, the majority of the ADS7812/ADS7813/ADS8513 circuitry is placed in a low-power mode and power consumption is significantly reduced.", 16 VS (power) "+5V supply input. For best performance, decouple to ground with a 0.1uF ceramic capacitor in parallel with a 10uF tantalum capacitor."

## ADS7812PBG4
designator U?
Low-Power, Serial 12-Bit Sampling ADC, -40 to 85 degC, 16-pin DIP (N16), Green (RoHS & no Sb/Br); Manufacturer: Texas Instruments; PartNumber: ADS7812PBG4; # Input Channels: 1; Analog Voltage AV/DD(Max)(V): 5.25; Analog Voltage AV/DD(Min)(V): 4.75; Architecture: SAR; INL(Max)(+/-LSB): 0.5; Interface: Serial SPI; Resolution(Bits): 12; Sample Rate (max)(SPS): 40k; SFDR(dB): 98; SINAD(dB): 74; SubFamily: Precision ADC (<=10MSPS); DatasheetVersion: SBAS042A; PackageVersion: 4040049/E, 12/2002; PackageReference: N16; PackageDescription: 16-Pin Plastic In-Line, Body 19.305 x 6.35 mm, Pitch 2.54 mm; Supplier 1: Digi-Key; Supplier Part Number 1: ADS7864Y/2K-ND; Supplier 2: Newark; Supplier Part Number 2: 74C7194; Supplier 3: Mouser; Supplier Part Number 3: 595-ADS7864Y/2K; Digital Supply(Max)(V): 5.25; Digital Supply(Min)(V): 4.75; Eco-Plan: Green (RoHS & no Sb/Br); SNR(dB): 74; Mounting Technology: Through Hole; Code_JEDEC: MS-001; ComponentLink1Description: Manufacturer URL; ComponentLink1URL: http://www.ti.com/; ComponentLink2Description: Datasheet; ComponentLink2URL: http://www.ti.com/general/docs/lit/getliterature.tsp?genericPartNumber=ADS7812&fileType=pdf; ComponentLink3Description: Package Specification; ComponentLink3URL: http://www.ti.com/litv/pdf/mpdi002c
footprint TI-N16 (DIP, 16-Leads, Body 19.305x6.35mm, Pitch 2.54mm)
pins: 1 R1IN (in) "Analog input", 2 GND (power) "Ground.", 3 R2IN (in) "Analog input", 4 R3IN (in) "Analog input", 5 BUF (out) "Reference buffer output. Connect to R1IN, R2IN, or R3IN as needed", 6 CAP "Reference buffer compensation node. Decouple to ground with a 1-uF tantalum capacitor in parallel with a 0.01uF ceramic capacitor.", 7 REF (io) "Reference input/output. Outputs internal 2.5V reference via a series 4kohm resistor. Decouple this voltage with a 1uF to 2.2uF tantalum capacitor to ground. If an external reference voltage is applied to this pin, it (See Datasheet)", 8 GND (power) "Ground.", 9 DATACLK (io) "Data clock pin. With EXT/I\N\T\ low, this pin is an output and provides the synchronous clock for the serial data. The output is 3-stated when C\S\ is high. With EXT/I\N\T\ high, this pin is an input and the serial data (See Datasheet)", 10 DATA (hiz) "Serial data output. The serial data are always the result of the last completed conversion and are synchronized to DATACLK. If DATACLK is from the internal clock (EXT/I\N\T\ low), the serial data are valid on both the rising (See Datasheet)", 11 EXT/~{INT} (in), 12 ~{CONV} (in) "Convert input. A falling edge on this input puts the internal sample/hold into the hold state and starts a conversion regardless of the state of C\S\. If a conversion is already in progress, the falling edge is ignored. If (See Datasheet)", 13 ~{CS} (in) "Chip select. This input 3-states all outputs when high and enables all outputs when low, including DATA, B\U\S\Y\, and DATACLK (when EXT/I\N\T\ is low). Note that a falling edge on C\O\N\V\ initiates a conversion even when (See Datasheet)", 14 ~{BUSY} (hiz) "Busy output. When a conversion starts, B\U\S\Y\ goes low and remains low throughout the conversion. If EXT/I\N\T\ is low, data are serially transmitted while B\U\S\Y\ is low. B\U\S\Y\ is 3-stated when C\S\ is high.", 15 PWRD (in) "Power-down input. When high, the majority of the ADS7812/ADS7813/ADS8513 circuitry is placed in a low-power mode and power consumption is significantly reduced.", 16 VS (power) "+5V supply input. For best performance, decouple to ground with a 0.1uF ceramic capacitor in parallel with a 10uF tantalum capacitor."

## ADS7812PG4
designator U?
Low-Power, Serial 12-Bit Sampling ADC, -40 to 85 degC, 16-pin DIP (N16), Green (RoHS & no Sb/Br); Manufacturer: Texas Instruments; PartNumber: ADS7812PG4; # Input Channels: 1; Analog Voltage AV/DD(Max)(V): 5.25; Analog Voltage AV/DD(Min)(V): 4.75; Architecture: SAR; Interface: Serial SPI; Resolution(Bits): 12; Sample Rate (max)(SPS): 40k; SFDR(dB): 98; SINAD(dB): 74; SubFamily: Precision ADC (<=10MSPS); DatasheetVersion: SBAS042A; PackageVersion: 4040049/E, 12/2002; PackageReference: N16; PackageDescription: 16-Pin Plastic In-Line, Body 19.305 x 6.35 mm, Pitch 2.54 mm; Supplier 1: Digi-Key; Supplier Part Number 1: ADS7864Y/2KG4-ND; Supplier 2: Mouser; Supplier Part Number 2: 595-ADS7864Y/2KG4; Digital Supply(Max)(V): 5.25; Digital Supply(Min)(V): 4.75; Eco-Plan: Green (RoHS & no Sb/Br); INL(Max)(+/-LSB): 1; SNR(dB): 74; Mounting Technology: Through Hole; Code_JEDEC: MS-001; ComponentLink1Description: Manufacturer URL; ComponentLink1URL: http://www.ti.com/; ComponentLink2Description: Datasheet; ComponentLink2URL: http://www.ti.com/general/docs/lit/getliterature.tsp?genericPartNumber=ADS7812&fileType=pdf; ComponentLink3Description: Package Specification; ComponentLink3URL: http://www.ti.com/litv/pdf/mpdi002c
footprint TI-N16 (DIP, 16-Leads, Body 19.305x6.35mm, Pitch 2.54mm)
pins: 1 R1IN (in) "Analog input", 2 GND (power) "Ground.", 3 R2IN (in) "Analog input", 4 R3IN (in) "Analog input", 5 BUF (out) "Reference buffer output. Connect to R1IN, R2IN, or R3IN as needed", 6 CAP "Reference buffer compensation node. Decouple to ground with a 1-uF tantalum capacitor in parallel with a 0.01uF ceramic capacitor.", 7 REF (io) "Reference input/output. Outputs internal 2.5V reference via a series 4kohm resistor. Decouple this voltage with a 1uF to 2.2uF tantalum capacitor to ground. If an external reference voltage is applied to this pin, it (See Datasheet)", 8 GND (power) "Ground.", 9 DATACLK (io) "Data clock pin. With EXT/I\N\T\ low, this pin is an output and provides the synchronous clock for the serial data. The output is 3-stated when C\S\ is high. With EXT/I\N\T\ high, this pin is an input and the serial data (See Datasheet)", 10 DATA (hiz) "Serial data output. The serial data are always the result of the last completed conversion and are synchronized to DATACLK. If DATACLK is from the internal clock (EXT/I\N\T\ low), the serial data are valid on both the rising (See Datasheet)", 11 EXT/~{INT} (in), 12 ~{CONV} (in) "Convert input. A falling edge on this input puts the internal sample/hold into the hold state and starts a conversion regardless of the state of C\S\. If a conversion is already in progress, the falling edge is ignored. If (See Datasheet)", 13 ~{CS} (in) "Chip select. This input 3-states all outputs when high and enables all outputs when low, including DATA, B\U\S\Y\, and DATACLK (when EXT/I\N\T\ is low). Note that a falling edge on C\O\N\V\ initiates a conversion even when (See Datasheet)", 14 ~{BUSY} (hiz) "Busy output. When a conversion starts, B\U\S\Y\ goes low and remains low throughout the conversion. If EXT/I\N\T\ is low, data are serially transmitted while B\U\S\Y\ is low. B\U\S\Y\ is 3-stated when C\S\ is high.", 15 PWRD (in) "Power-down input. When high, the majority of the ADS7812/ADS7813/ADS8513 circuitry is placed in a low-power mode and power consumption is significantly reduced.", 16 VS (power) "+5V supply input. For best performance, decouple to ground with a 0.1uF ceramic capacitor in parallel with a 10uF tantalum capacitor."

## ADS7812U
designator U?
Low-Power, Serial 12-Bit Sampling ADC, -40 to 85 degC, 16-pin SOIC (DW16), Green (RoHS & no Sb/Br); Manufacturer: Texas Instruments; PartNumber: ADS7812U; # Input Channels: 1; Analog Voltage AV/DD(Max)(V): 5.25; Analog Voltage AV/DD(Min)(V): 4.75; Architecture: SAR; Interface: Serial SPI; Resolution(Bits): 12; Sample Rate (max)(SPS): 40k; SFDR(dB): 98; SINAD(dB): 74; SubFamily: Precision ADC (<=10MSPS); DatasheetVersion: SBAS042A; PackageVersion: 4040000-2/G, 01/2011; PackageReference: DW16; PackageDescription: 16-Pin Plastic Small Outline, Body 10.30 x 7.50 mm, Pitch 1.27 mm; Supplier 1: Digi-Key; Supplier Part Number 1: ADS7864YBTR-ND; Supplier 2: Digi-Key; Supplier Part Number 2: ADS7864YBCT-ND; Supplier 3: Digi-Key; Supplier Part Number 3: ADS7864YBDKR-ND; Supplier 4: Newark; Supplier Part Number 4: 35C1567; Supplier 5: Mouser; Supplier Part Number 5: 595-ADS7864YB/250; Digital Supply(Max)(V): 5.25; Digital Supply(Min)(V): 4.75; Eco-Plan: Green (RoHS & no Sb/Br); INL(Max)(+/-LSB): 1; SNR(dB): 74; Mounting Technology: Surface Mount; Code_JEDEC: MS-013; ComponentLink1Description: Manufacturer URL; ComponentLink1URL: http://www.ti.com/; ComponentLink2Description: Datasheet; ComponentLink2URL: http://www.ti.com/general/docs/lit/getliterature.tsp?genericPartNumber=ADS7812&fileType=pdf; ComponentLink3Description: Package Specification; ComponentLink3URL: http://www.ti.com/litv/pdf/msoi003g
footprint TI-DW16_N (SOIC, 16-Leads, Body 10.3x7.5mm, Pitch 1.27mm, IPC Medium Density)
footprint TI-DW16_L (SOIC, 16-Leads, Body 10.3x7.5mm, Pitch 1.27mm, IPC High Density)
footprint TI-DW16_M (SOIC, 16-Leads, Body 10.3x7.5mm, Pitch 1.27mm, IPC Low Density)
pins: 1 R1IN (in) "Analog input", 2 GND (power) "Ground.", 3 R2IN (in) "Analog input", 4 R3IN (in) "Analog input", 5 BUF (out) "Reference buffer output. Connect to R1IN, R2IN, or R3IN as needed", 6 CAP "Reference buffer compensation node. Decouple to ground with a 1-uF tantalum capacitor in parallel with a 0.01uF ceramic capacitor.", 7 REF (io) "Reference input/output. Outputs internal 2.5V reference via a series 4kohm resistor. Decouple this voltage with a 1uF to 2.2uF tantalum capacitor to ground. If an external reference voltage is applied to this pin, it (See Datasheet)", 8 GND (power) "Ground.", 9 DATACLK (io) "Data clock pin. With EXT/I\N\T\ low, this pin is an output and provides the synchronous clock for the serial data. The output is 3-stated when C\S\ is high. With EXT/I\N\T\ high, this pin is an input and the serial data (See Datasheet)", 10 DATA (hiz) "Serial data output. The serial data are always the result of the last completed conversion and are synchronized to DATACLK. If DATACLK is from the internal clock (EXT/I\N\T\ low), the serial data are valid on both the rising (See Datasheet)", 11 EXT/~{INT} (in), 12 ~{CONV} (in) "Convert input. A falling edge on this input puts the internal sample/hold into the hold state and starts a conversion regardless of the state of C\S\. If a conversion is already in progress, the falling edge is ignored. If (See Datasheet)", 13 ~{CS} (in) "Chip select. This input 3-states all outputs when high and enables all outputs when low, including DATA, B\U\S\Y\, and DATACLK (when EXT/I\N\T\ is low). Note that a falling edge on C\O\N\V\ initiates a conversion even when (See Datasheet)", 14 ~{BUSY} (hiz) "Busy output. When a conversion starts, B\U\S\Y\ goes low and remains low throughout the conversion. If EXT/I\N\T\ is low, data are serially transmitted while B\U\S\Y\ is low. B\U\S\Y\ is 3-stated when C\S\ is high.", 15 PWRD (in) "Power-down input. When high, the majority of the ADS7812/ADS7813/ADS8513 circuitry is placed in a low-power mode and power consumption is significantly reduced.", 16 VS (power) "+5V supply input. For best performance, decouple to ground with a 0.1uF ceramic capacitor in parallel with a 10uF tantalum capacitor."

## ADS7812UB
designator U?
Low-Power, Serial 12-Bit Sampling ADC, -40 to 85 degC, 16-pin SOIC (DW16), Green (RoHS & no Sb/Br); Manufacturer: Texas Instruments; PartNumber: ADS7812UB; # Input Channels: 1; Analog Voltage AV/DD(Max)(V): 5.25; Analog Voltage AV/DD(Min)(V): 4.75; Architecture: SAR; INL(Max)(+/-LSB): 0.5; Interface: Serial SPI; Resolution(Bits): 12; Sample Rate (max)(SPS): 40k; SFDR(dB): 98; SINAD(dB): 74; SubFamily: Precision ADC (<=10MSPS); DatasheetVersion: SBAS042A; PackageVersion: 4040000-2/G, 01/2011; PackageReference: DW16; PackageDescription: 16-Pin Plastic Small Outline, Body 10.30 x 7.50 mm, Pitch 1.27 mm; Supplier 1: Digi-Key; Supplier Part Number 1: ADS7864YB/250G4-ND; Supplier 2: Farnell; Supplier Part Number 2: 1329576; Supplier 3: Mouser; Supplier Part Number 3: 595-ADS7864YB/250G4; Digital Supply(Max)(V): 5.25; Digital Supply(Min)(V): 4.75; Eco-Plan: Green (RoHS & no Sb/Br); SNR(dB): 74; Mounting Technology: Surface Mount; Code_JEDEC: MS-013; ComponentLink1Description: Manufacturer URL; ComponentLink1URL: http://www.ti.com/; ComponentLink2Description: Datasheet; ComponentLink2URL: http://www.ti.com/general/docs/lit/getliterature.tsp?genericPartNumber=ADS7812&fileType=pdf; ComponentLink3Description: Package Specification; ComponentLink3URL: http://www.ti.com/litv/pdf/msoi003g
footprint TI-DW16_N (SOIC, 16-Leads, Body 10.3x7.5mm, Pitch 1.27mm, IPC Medium Density)
footprint TI-DW16_L (SOIC, 16-Leads, Body 10.3x7.5mm, Pitch 1.27mm, IPC High Density)
footprint TI-DW16_M (SOIC, 16-Leads, Body 10.3x7.5mm, Pitch 1.27mm, IPC Low Density)
pins: 1 R1IN (in) "Analog input", 2 GND (power) "Ground.", 3 R2IN (in) "Analog input", 4 R3IN (in) "Analog input", 5 BUF (out) "Reference buffer output. Connect to R1IN, R2IN, or R3IN as needed", 6 CAP "Reference buffer compensation node. Decouple to ground with a 1-uF tantalum capacitor in parallel with a 0.01uF ceramic capacitor.", 7 REF (io) "Reference input/output. Outputs internal 2.5V reference via a series 4kohm resistor. Decouple this voltage with a 1uF to 2.2uF tantalum capacitor to ground. If an external reference voltage is applied to this pin, it (See Datasheet)", 8 GND (power) "Ground.", 9 DATACLK (io) "Data clock pin. With EXT/I\N\T\ low, this pin is an output and provides the synchronous clock for the serial data. The output is 3-stated when C\S\ is high. With EXT/I\N\T\ high, this pin is an input and the serial data (See Datasheet)", 10 DATA (hiz) "Serial data output. The serial data are always the result of the last completed conversion and are synchronized to DATACLK. If DATACLK is from the internal clock (EXT/I\N\T\ low), the serial data are valid on both the rising (See Datasheet)", 11 EXT/~{INT} (in), 12 ~{CONV} (in) "Convert input. A falling edge on this input puts the internal sample/hold into the hold state and starts a conversion regardless of the state of C\S\. If a conversion is already in progress, the falling edge is ignored. If (See Datasheet)", 13 ~{CS} (in) "Chip select. This input 3-states all outputs when high and enables all outputs when low, including DATA, B\U\S\Y\, and DATACLK (when EXT/I\N\T\ is low). Note that a falling edge on C\O\N\V\ initiates a conversion even when (See Datasheet)", 14 ~{BUSY} (hiz) "Busy output. When a conversion starts, B\U\S\Y\ goes low and remains low throughout the conversion. If EXT/I\N\T\ is low, data are serially transmitted while B\U\S\Y\ is low. B\U\S\Y\ is 3-stated when C\S\ is high.", 15 PWRD (in) "Power-down input. When high, the majority of the ADS7812/ADS7813/ADS8513 circuitry is placed in a low-power mode and power consumption is significantly reduced.", 16 VS (power) "+5V supply input. For best performance, decouple to ground with a 0.1uF ceramic capacitor in parallel with a 10uF tantalum capacitor."

## ADS7812UB/1K
designator U?
Low-Power, Serial 12-Bit Sampling ADC, -40 to 85 degC, 16-pin SOIC (DW16), Green (RoHS & no Sb/Br); Manufacturer: Texas Instruments; PartNumber: ADS7812UB/1K; # Input Channels: 1; Analog Voltage AV/DD(Max)(V): 5.25; Analog Voltage AV/DD(Min)(V): 4.75; Architecture: SAR; INL(Max)(+/-LSB): 0.5; Interface: Serial SPI; Resolution(Bits): 12; Sample Rate (max)(SPS): 40k; SFDR(dB): 98; SINAD(dB): 74; SubFamily: Precision ADC (<=10MSPS); DatasheetVersion: SBAS042A; PackageVersion: 4040000-2/G, 01/2011; PackageReference: DW16; PackageDescription: 16-Pin Plastic Small Outline, Body 10.30 x 7.50 mm, Pitch 1.27 mm; Supplier 1: Digi-Key; Supplier Part Number 1: ADS7864YB/2K-ND; Supplier 2: Mouser; Supplier Part Number 2: 595-ADS7864YB/2K; Digital Supply(Max)(V): 5.25; Digital Supply(Min)(V): 4.75; Eco-Plan: Green (RoHS & no Sb/Br); SNR(dB): 74; Mounting Technology: Surface Mount; Code_JEDEC: MS-013; ComponentLink1Description: Manufacturer URL; ComponentLink1URL: http://www.ti.com/; ComponentLink2Description: Datasheet; ComponentLink2URL: http://www.ti.com/general/docs/lit/getliterature.tsp?genericPartNumber=ADS7812&fileType=pdf; ComponentLink3Description: Package Specification; ComponentLink3URL: http://www.ti.com/litv/pdf/msoi003g
footprint TI-DW16_N (SOIC, 16-Leads, Body 10.3x7.5mm, Pitch 1.27mm, IPC Medium Density)
footprint TI-DW16_L (SOIC, 16-Leads, Body 10.3x7.5mm, Pitch 1.27mm, IPC High Density)
footprint TI-DW16_M (SOIC, 16-Leads, Body 10.3x7.5mm, Pitch 1.27mm, IPC Low Density)
pins: 1 R1IN (in) "Analog input", 2 GND (power) "Ground.", 3 R2IN (in) "Analog input", 4 R3IN (in) "Analog input", 5 BUF (out) "Reference buffer output. Connect to R1IN, R2IN, or R3IN as needed", 6 CAP "Reference buffer compensation node. Decouple to ground with a 1-uF tantalum capacitor in parallel with a 0.01uF ceramic capacitor.", 7 REF (io) "Reference input/output. Outputs internal 2.5V reference via a series 4kohm resistor. Decouple this voltage with a 1uF to 2.2uF tantalum capacitor to ground. If an external reference voltage is applied to this pin, it (See Datasheet)", 8 GND (power) "Ground.", 9 DATACLK (io) "Data clock pin. With EXT/I\N\T\ low, this pin is an output and provides the synchronous clock for the serial data. The output is 3-stated when C\S\ is high. With EXT/I\N\T\ high, this pin is an input and the serial data (See Datasheet)", 10 DATA (hiz) "Serial data output. The serial data are always the result of the last completed conversion and are synchronized to DATACLK. If DATACLK is from the internal clock (EXT/I\N\T\ low), the serial data are valid on both the rising (See Datasheet)", 11 EXT/~{INT} (in), 12 ~{CONV} (in) "Convert input. A falling edge on this input puts the internal sample/hold into the hold state and starts a conversion regardless of the state of C\S\. If a conversion is already in progress, the falling edge is ignored. If (See Datasheet)", 13 ~{CS} (in) "Chip select. This input 3-states all outputs when high and enables all outputs when low, including DATA, B\U\S\Y\, and DATACLK (when EXT/I\N\T\ is low). Note that a falling edge on C\O\N\V\ initiates a conversion even when (See Datasheet)", 14 ~{BUSY} (hiz) "Busy output. When a conversion starts, B\U\S\Y\ goes low and remains low throughout the conversion. If EXT/I\N\T\ is low, data are serially transmitted while B\U\S\Y\ is low. B\U\S\Y\ is 3-stated when C\S\ is high.", 15 PWRD (in) "Power-down input. When high, the majority of the ADS7812/ADS7813/ADS8513 circuitry is placed in a low-power mode and power consumption is significantly reduced.", 16 VS (power) "+5V supply input. For best performance, decouple to ground with a 0.1uF ceramic capacitor in parallel with a 10uF tantalum capacitor."